# Altium footprint library Library.PcbLib: 124 footprints (part 6 of 8)
Each footprint in its own frame and in the unit in brackets; x right, y up, seen from the top. Pads: shape width x height; smd on the part's side, far side on the other; paste and mask are expansions set on the pad; w line width, h text height; cw(c..) or ccw(c..) is an arc to the next point about the centre after c.
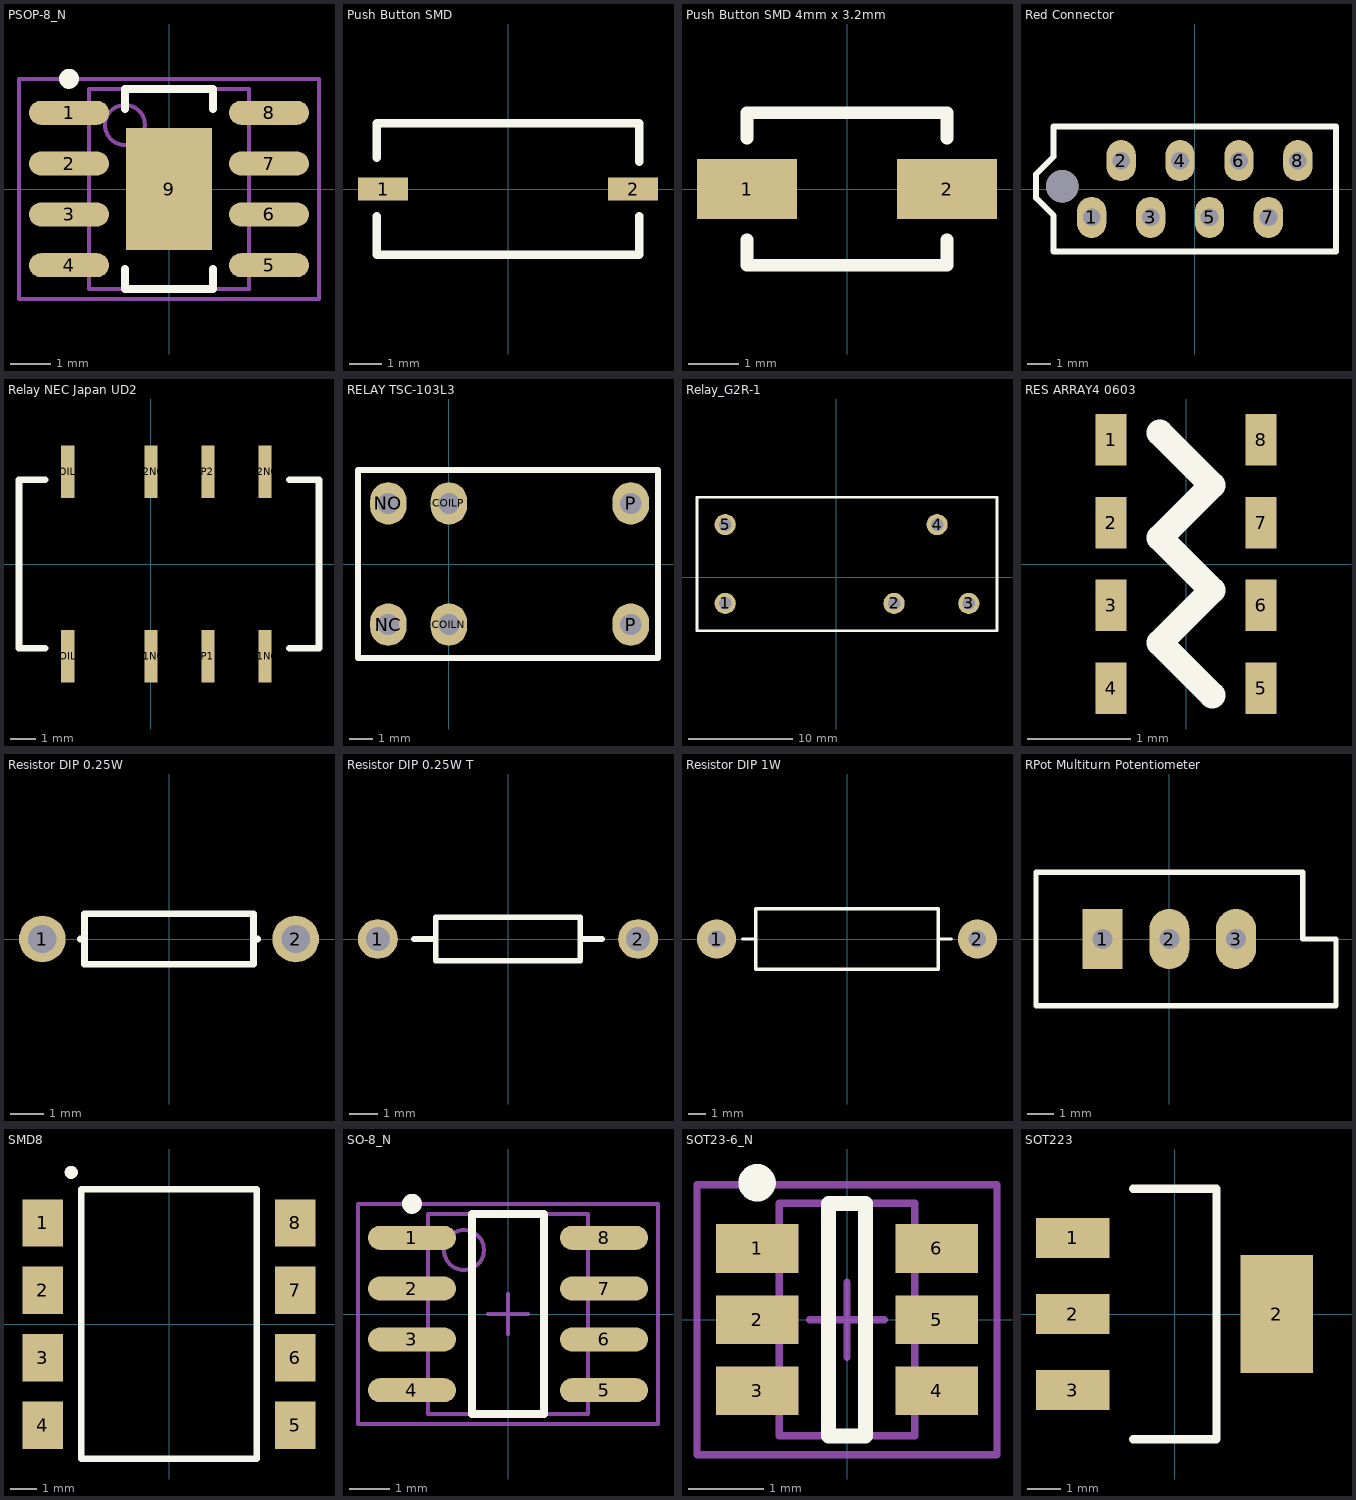
[diagram p5: the footprints below, top view; thin cyan lines are the x and y axes]

## PSOP-8_N [mm] "8-Pin Small Outline Integrated Circuit 1.27 mm Pitch, IPC Medium Density"
height 1.55
pads (9):
  oval 2x0.6 smd: 1(-2.5,1.905) 2(-2.5,0.635) 3(-2.5,-0.635) 4(-2.5,-1.905) 5(2.5,-1.905) 6(2.5,-0.635) 7(2.5,0.635) 8(2.5,1.905)
  rect 2.15x3.05 smd: 9(0,0)
Top Overlay:
  circle w0.25: c-2.5,2.755 r0.125
  lines w0.2: -1.1,-2 -1.1,-2.5 1.1,-2.5 1.1,-2 ; -1.1,2 -1.1,2.5 1.1,2.5 1.1,2
Mechanical 13:
  circle w0.1: c-1.1,1.6 r0.5
  lines w0.1: -2,-2.5 2,-2.5 2,2.5 -2,2.5 -2,-2.5
Mechanical 15:
  lines w0.1: -0.5,0 0.5,0 ; 0,-0.5 0,0.5 ; -3.75,-2.75 3.75,-2.75 3.75,2.75 -3.75,2.75 -3.75,-2.75
3D body: height 1.55, standoff 0, extent -2,-2.5 2,2.5

## Push Button SMD [mil]
pads (2):
  rect 60x27.56 smd: 1(-150,0) 2(150,0)
Top Overlay:
  lines w10: -157.48,-32.52 -157.48,-78.74 157.48,-78.74 157.48,-32.48 ; -157.48,37.52 -157.48,78.74 157.48,78.74 157.48,32.52

## Push Button SMD 4mm x 3.2mm [mm]
pads (2):
  rect 2x1.2 smd: 1(-2,0) 2(2,0)
Top Overlay:
  lines w0.254: -2,-1.016 -2,-1.524 2,-1.524 2,-1.016 ; -2,1.016 -2,1.524 2,1.524 2,1.016

## Red Connector [mil]
height 157.48
pads (8):
  oval 50x70 hole 30: 1(-175.39,-48.23) 2(-125.28,48.23) 3(-75.17,-48.23) 4(-25.06,48.23) 5(25.06,-48.23) 6(75.17,48.23) 7(125.28,-48.23) 8(175.39,48.23)
via -225.39,4.92 diameter 55.12 hole 55.12
Top Overlay:
  lines w10: -270,-15 -270,25 -240.16,54.84 -240.16,106.3 240.16,106.3 240.16,-106.3 -240.16,-106.3 -240.16,-44.84 -270,-15

## Relay NEC Japan UD2 [mil] "Relay NEC Japan UD2-3NU"
height 214.57
pads (8):
  rect 20x80 smd: COILN(-125.98,140) COILP(-125.98,-140) P1(86.61,-140) P1NC(0,-140) P1NO(173.23,-140) P2(86.61,140) P2NC(0,140) P2NO(173.23,140)
Top Overlay:
  lines w10: -160,-127.95 -200,-127.95 -200,127.95 -160,127.95 ; 210,-127.95 255,-127.95 255,127.95 210,127.95

## RELAY TSC-103L3 [mil] "TSC-103L3"
height 401.57
pads (6):
  oval 60x70 hole 35: COILN(0,-100) COILP(0,100) NC(-100,-100) NO(-100,100) P(300,-100) P(300,100)
Top Overlay:
  lines w10: -150,-155 -150,155 345,155 345,-155 -150,-155

## Relay_G2R-1 [mil]
pads (5):
  round 80 hole 47: 1(-419.5,-98.5) 2(217.5,-98.5) 3(499.5,-98.5) 4(380,198.5) 5(-419.5,198.5)
Top Overlay:
  lines w10: -526,-202.5 -526,302.5 606,302.5 606,-202.5 -526,-202.5

## RES ARRAY4 0603 [mm]
pads (8):
  rect 0.3x0.5 smd: 1(-0.725,1.2) 2(-0.725,0.4) 3(-0.725,-0.4) 4(-0.725,-1.2) 5(0.725,-1.2) 6(0.725,-0.4) 7(0.725,0.4) 8(0.725,1.2)
Top Overlay:
  lines w0.254: -0.254,1.27 0.254,0.762 -0.254,0.254 0.254,-0.254 -0.254,-0.762 0.254,-1.27

## Resistor DIP 0.25W [mm] "Resistor DIP 0.25W"
height 1.524
pads (2):
  round 1.4 hole 0.85: 1(-3.81,0) 2(3.81,0)
Top Overlay:
  lines w0.2: -2.667,0 -2.54,0 ; 2.667,0 2.54,0 ; 2.54,0 2.54,0.762 -2.54,0.762 -2.54,-0.762 2.54,-0.762 2.54,0

## Resistor DIP 0.25W T [mm] "Resistor DIP 0.25W T"
height 1.524
pads (2):
  round 1.4 hole 0.85: 1(-4.572,0) 2(4.572,0)
Top Overlay:
  lines w0.2: -3.302,0 -2.667,0 ; 3.302,0 2.54,0 ; 2.54,0 2.54,0.762 -2.54,0.762 -2.54,-0.762 2.54,-0.762 2.54,0

## Resistor DIP 1W [mil] "Resistor DIP 1W"
height 60
pads (2):
  round 90 hole 40: 1(-300,0) 2(300,0)
Top Overlay:
  lines w7.87: -240,0 -210,0 ; 210,0 240,0 ; -210,-70 -210,70 210,70 210,-70 -210,-70

## RPot Multiturn Potentiometer [mil] "Multiturn Potentiometer; Thru-Hole; 3 Leads"
pads (3):
  rect 60x90 hole 30: 1(-100,0)
  oval 60x90 hole 30: 2(0,0) 3(100,0)
Top Overlay:
  lines w7.87: -200,-100 250,-100 250,0 200,0 200,100 -200,100 -200,-100

## SMD8 [mm] "6N137"
height 3.75
pads (8):
  rrect0% 1.525x1.78 smd: 1(-4.762,3.81) 2(-4.762,1.27) 3(-4.762,-1.27) 4(-4.762,-3.81) 5(4.762,-3.81) 6(4.762,-1.27) 7(4.762,1.27) 8(4.762,3.81)
Top Overlay:
  circle w0.254: c-3.683,5.715 r0.12
  lines w0.254: -3.302,-5.08 -3.302,5.08 3.302,5.08 3.302,-5.08 -3.302,-5.08

## SO-8_N [mm] "SOIC, 8-Leads, Body 4.9x3.9mm, Pitch 1.27mm, IPC Medium Density"
height 1.75
pads (8):
  oval 2.2x0.6 smd: 1(-2.4,1.905) 2(-2.4,0.635) 3(-2.4,-0.635) 4(-2.4,-1.905) 5(2.4,-1.905) 6(2.4,-0.635) 7(2.4,0.635) 8(2.4,1.905)
Top Overlay:
  circle w0.25: c-2.4,2.755 r0.125
  lines w0.2: -0.9,-2.5 -0.9,2.5 0.9,2.5 0.9,-2.5 -0.9,-2.5
Mechanical 13:
  circle w0.1: c-1.1,1.6 r0.5
  lines w0.1: -2,-2.5 -2,2.5 2,2.5 2,-2.5 -2,-2.5
Mechanical 15:
  lines w0.1: -0.5,0 0.5,0 ; 0,-0.5 0,0.5 ; -3.75,-2.75 -3.75,2.75 3.75,2.75 3.75,-2.75 -3.75,-2.75
3D body: height 1.75, standoff 0, extent -2,-2.5 2,2.5

## SOT23-6_N [mm] "SOT23, 6-Leads, Body 2.9x1.6mm, Pitch 0.95mm, Lead Span 2.7mm, IPC Medium Density"
height 1.45
pads (6):
  rect 1.1x0.65 smd: 1(-1.2,0.95) 2(-1.2,0) 3(-1.2,-0.95) 4(1.2,-0.95) 5(1.2,0) 6(1.2,0.95)
Top Overlay:
  circle w0.25: c-1.2,1.825 r0.125
  lines w0.2: -0.25,-1.55 -0.25,1.55 0.25,1.55 0.25,-1.55 -0.25,-1.55
Mechanical 13:
  lines w0.1: -0.9,-1.55 0.9,-1.55 0.9,1.55 -0.9,1.55 -0.9,-1.55
Mechanical 15:
  lines w0.1: -0.5,0 0.5,0 ; 0,-0.5 0,0.5 ; -2,-1.8 2,-1.8 2,1.8 -2,1.8 -2,-1.8
3D body: height 1.45, standoff 0, extent -0.9,-1.55 0.9,1.55

## SOT223 [mil]
pads (4):
  rect 88x48 smd: 1(-122,91) 2(-122,0) 3(-122,-91)
  rect 86.61x141.73 smd: 2(122.01,0)
Top Overlay:
  lines w10: -50,-150 50,-150 50,150 -50,150